# EAGLE library part Q_WIZ811MJ (library MRDT-2014-All)
10/100 Base T/TX Ethernet Chip with Port
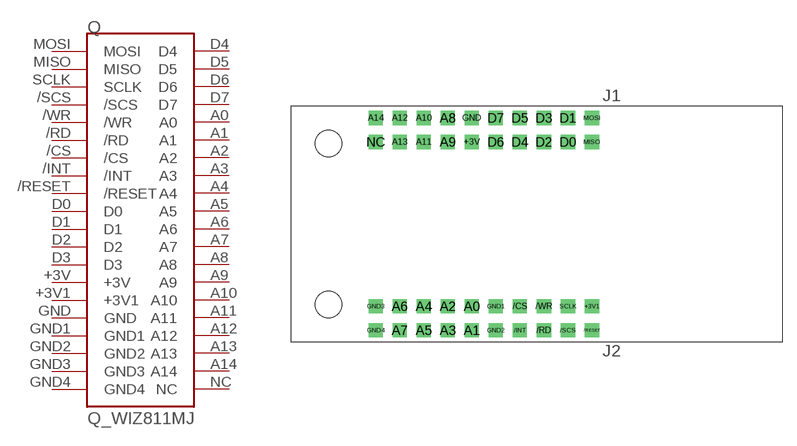
[diagram p21: symbol with the pads of Q_WIZ811MJ; footprint Q_WIZ811MJ]

Designator prefix Q

## Q_WIZ811MJ  [Q_WIZ811MJ]
+3V  +3V
+3V1  +3V1
/CS  /CS
/INT  /INT
/RD  /RD
/RESET  /RESET
/SCS  /SCS
/WR  /WR
A0  A0
A1  A1
A2  A2
A3  A3
A4  A4
A5  A5
A6  A6
A7  A7
A8  A8
A9  A9
A10  A10
A11  A11
A12  A12
A13  A13
A14  A14
D0  D0
D1  D1
D2  D2
D3  D3
D4  D4
D5  D5
D6  D6
D7  D7
GND  GND
GND1  GND1
GND2  GND2
GND3  GND3
GND4  GND4
MISO  MISO
MOSI  MOSI
NC  NC
SCLK  SCLK

## Footprint Q_WIZ811MJ (pad centres in mm)
drill 1 square: +3V -6.84,8.69; +3V1 5.86,-8.69; /CS -1.76,-8.69; /INT -1.76,-11.23; /RD 0.78,-11.23; /RESET 5.86,-11.23; /SCS 3.32,-11.23; /WR 0.78,-8.69; A0 -6.84,-8.69; A1 -6.84,-11.23; A2 -9.38,-8.69; A3 -9.38,-11.23; A4 -11.92,-8.69; A5 -11.92,-11.23; A6 -14.46,-8.69; A7 -14.46,-11.23; A8 -9.38,11.23; A9 -9.38,8.69; A10 -11.92,11.23; A11 -11.92,8.69; A12 -14.46,11.23; A13 -14.46,8.69; A14 -17,11.23; D0 3.32,8.69; D1 3.32,11.23; D2 0.78,8.69; D3 0.78,11.23; D4 -1.76,8.69; D5 -1.76,11.23; D6 -4.3,8.69; D7 -4.3,11.23; GND -6.84,11.23; GND1 -4.3,-8.69; GND2 -4.3,-11.23; GND3 -17,-8.69; GND4 -17,-11.23; MISO 5.86,8.69; MOSI 5.86,11.23; NC -17,8.69; SCLK 3.32,-8.69
hole 2.8 at -22,-8.5
hole 2.8 at -22,8.5